# EAGLE library part MSTBVA-08 (library con-phoenix-500)
MSTBVA 2,5/8-G
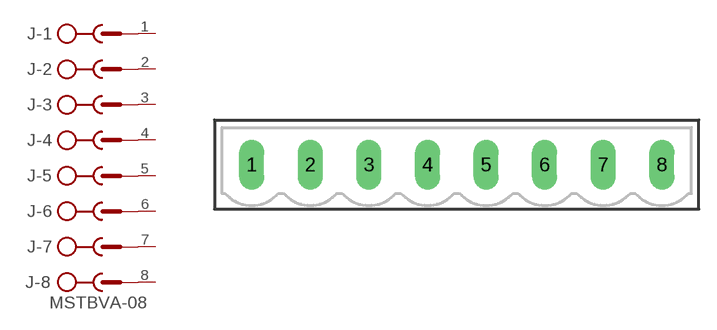
[diagram p4: symbol with the pads of MSTBVA8; footprint MSTBVA8]

Designator prefix J; gates -1=SK -2=SK -3=SK -4=SK -5=SK -6=SK -7=SK -8=SK+V

## MSTBVA-08  [MSTBVA8]
1  -1:SK  pas
2  -2:SK  pas
3  -3:SK  pas
4  -4:SK  pas
5  -5:SK  pas
6  -6:SK  pas
7  -7:SK  pas
8  -8:SK  pas

## Footprint MSTBVA8 (pad centres in mm)
drill 1.422 long: 1 -17.5,0; 2 -12.496,0; 3 -7.492,0; 4 -2.489,0; 5 2.49,0; 6 7.494,0; 7 12.497,0; 8 17.501,0